# Altium footprint library MODULE_DM-OLED096-636.PcbLib: 1 footprints
Each footprint in its own frame and in the unit in brackets; x right, y up, seen from the top. Pads: shape width x height; smd on the part's side, far side on the other; paste and mask are expansions set on the pad; w line width, h text height; cw(c..) or ccw(c..) is an arc to the next point about the centre after c.
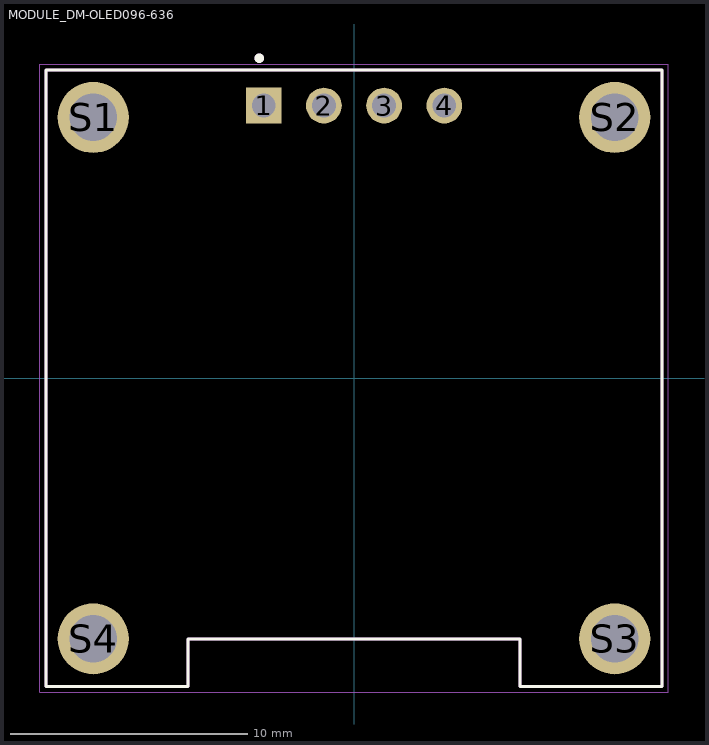
[diagram p0: the footprint, top view; thin cyan lines are the x and y axes]

## MODULE_DM-OLED096-636 [mm]
height 11.3
pads (8):
  rect 1.508x1.508 / inner round 1.508 / far side rect 1.508x1.508 hole 1: 1(-3.81,11.5)
  round 1.508 hole 1: 2(-1.27,11.5) 3(1.27,11.5) 4(3.81,11.5)
  round 3 hole 2: S1(-11,11) S2(11,11) S3(11,-11) S4(-11,-11)
Top Overlay:
  circle w0.2: c-4,13.5 r0.1
  lines w0.127: -13,-13 -13,13 13,13 13,-13 7,-13 7,-11 -7,-11 -7,-13 -13,-13
Mechanical 13:
  circle w0.2: c-4,13.5 r0.1
  lines w0.127: -13,-13 -13,13 13,13 13,-13 7,-13 7,-11 -7,-11 -7,-13 -13,-13
Mechanical 15:
  lines w0.05: -13.25,-13.25 -13.25,13.25 13.25,13.25 13.25,-13.25 -13.25,-13.25
3D body "step_temp.STEP": height 5.66, standoff -5.64, extent -13,-13 13,13